# EAGLE library part BARRIER_STRIP_8POS (library TE)
8-position barrier strip, 0.325" pitch, three-wall type, #4 screw Datasheet: http://www.te.com/commerce/DocumentDelivery/DDEController?Action=srchrtrv&DocNm=5-1437648-7&DocType=Customer+Drawing&DocLang=English
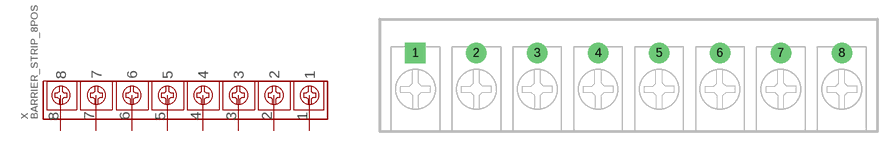
[diagram p3: symbol with the pads of BARRIER_STRIP_4PCV-08-006; footprint BARRIER_STRIP_4PCV-08-006]

Designator prefix X

## BARRIER_STRIP_8POS (PARTNO: 4PCV-08-006)  [BARRIER_STRIP_4PCV-08-006]
1  1
2  2
3  3
4  4
5  5
6  6
7  7
8  8

## Footprint BARRIER_STRIP_4PCV-08-006 (pad centres in mm)
4PCV-08-006: 8 position barrier strip, three wall type, 0.375" pitch Datasheet: http://www.te.com/commerce/DocumentDelivery/DDEController?Action=srchrtrv&DocNm=5-1437648-7&DocType=Customer+Drawing&DocLang=English
drill 1.854 square: 1 0,0
drill 1.854 round: 2 8.255,0; 3 16.51,0; 4 24.765,0; 5 33.02,0; 6 41.275,0; 7 49.53,0; 8 57.785,0